# Altium schematic symbol library EEVFK2A221M.SchLib: 1 symbol
Pins are listed as number, name and electrical type; pins without a type are passive.

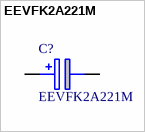
[diagram p0: symbol EEVFK2A221M]

## EEVFK2A221M
designator C?
Ecap 220uF 100V K16 case Panasonic Aluminium Electrolytic Capacitor 220F 100 V dc 18mm Surface Mount series FK SMD lifetime 5000h; Allied_Number: 70257853; Manufacturer_Name: Panasonic; Manufacturer_Part_Number: EEVFK2A221M; RS Part Number: 5370679; RS Price/Stock: http://uk.rs-online.com/web/p/products/5370679; Allied Price/Stock: https://www.alliedelec.com/panasonic-eev-fk2a221m/70257853/; Arrow Part Number: EEVFK2A221M; Arrow Price/Stock: https://www.arrow.com/en/products/eevfk2a221m/panasonic; Datasheet Link: http://uk.rs-online.com/web/p/products/5370679
footprint FKV(K16)
pins: 1 +, 2 -